# Altium footprint library OSC-SMD_4P.PcbLib: 1 footprints
Each footprint in its own frame and in the unit in brackets; x right, y up, seen from the top. Pads: shape width x height; smd on the part's side, far side on the other; paste and mask are expansions set on the pad; w line width, h text height; cw(c..) or ccw(c..) is an arc to the next point about the centre after c.
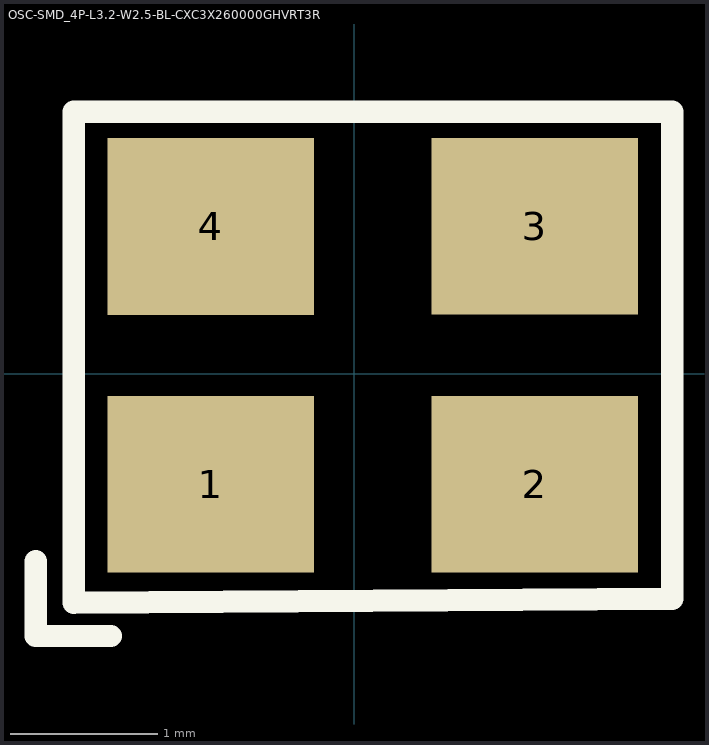
[diagram p0: the footprint, top view; thin cyan lines are the x and y axes]

## OSC-SMD_4P-L3.2-W2.5-BL-CXC3X260000GHVRT3R [mm]
pads (4):
  rect 1.4x1.2 smd: 1(-0.973,-0.748) 2(1.227,-0.748) 3(1.227,1.002) 4(-0.973,1.002)
Top Overlay:
  lines w0.152: -2.159,-1.27 -2.159,-1.778 -1.651,-1.778 ; -1.903,-1.552 2.159,-1.524 2.159,0.127 2.159,1.778 -1.903,1.778 -1.903,-1.552